# Altium schematic symbol library ld398m27r.SchLib: 1 symbol
Pins are listed as number, name and electrical type; pins without a type are passive.

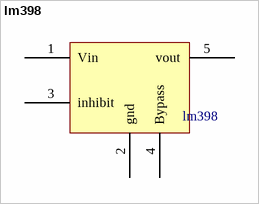
[diagram p0: symbol lm398]

## lm398
designator lm398  (value not drawn)
footprint *SOT95P280X145-5N
pins: 1 Vin, 2 gnd, 3 inhibit, 4 Bypass, 5 vout